# Altium footprint library Микродроссели.PcbLib: 12 footprints
Each footprint in its own frame and in the unit in brackets; x right, y up, seen from the top. Pads: shape width x height; smd on the part's side, far side on the other; paste and mask are expansions set on the pad; w line width, h text height; cw(c..) or ccw(c..) is an arc to the next point about the centre after c.
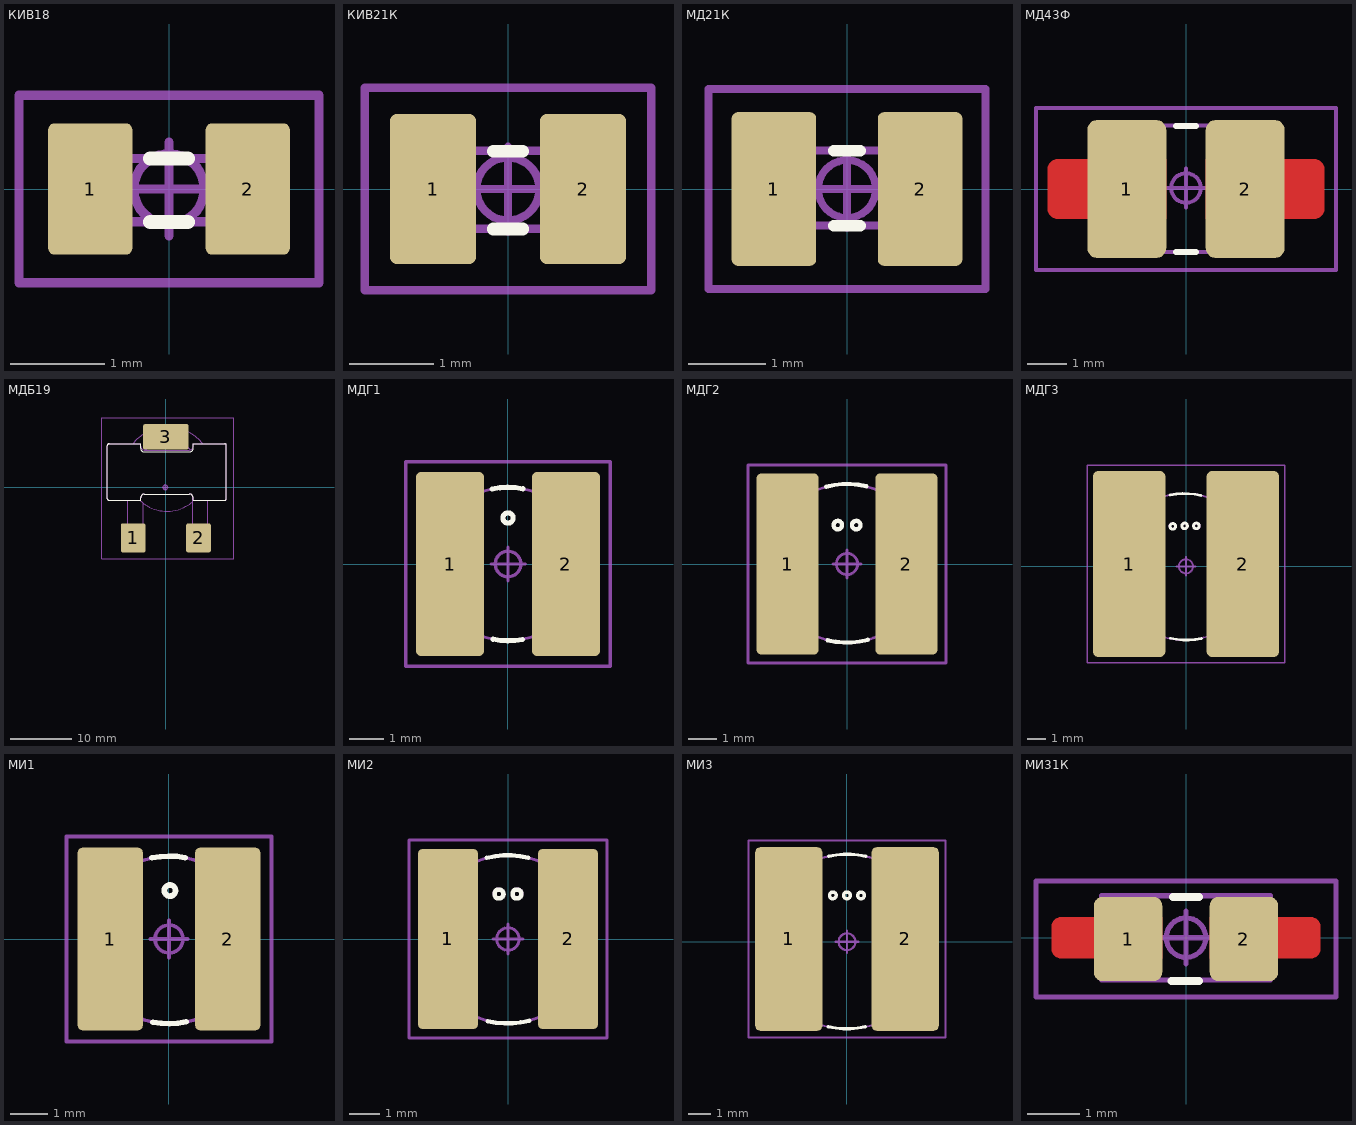
[diagram p0: the footprints below, top view; thin cyan lines are the x and y axes]

## КИВ18 [mm]
height 0.8
pads (2):
  rrect15% 0.9x1.4 smd: 1(-0.84,0) 2(0.84,0)
Top Overlay:
  lines w0.15: -0.2,-0.35 0.2,-0.35 ; -0.2,0.325 0.2,0.325
Top Assembly:
  lines w0.1: -0.45,-0.35 0.45,-0.35 ; -0.45,0.325 0.45,0.325 ; -0.846,-0.437 -0.846,0.423 -0.45,0.423 -0.45,-0.437 -0.846,-0.437 ; 0.45,-0.437 0.45,0.423 0.864,0.423 0.864,-0.437 0.45,-0.437
Top Courtyard (Mech15):
  circle w0.1: c0,0 r0.375
  lines w0.1: -0.5,0 0.5,0 ; 0,-0.5 0,0.5 ; -1.6,-1 -1.6,1 1.6,1 1.6,-1 -1.6,-1
3D body "КИВ18.STEP": height 0.73, standoff -0.03, extent -0.855,-0.43 0.855,0.43

## КИВ21К [mm]
height 1.52
pads (2):
  rrect15% 1.02x1.78 smd: 1(-0.89,0) 2(0.89,0)
Top Overlay:
  lines w0.15: -0.175,-0.475 0.175,-0.475 ; -0.175,0.45 0.175,0.45
Top Assembly:
  lines w0.1: -0.577,-0.473 0.583,-0.473 ; -0.557,0.456 0.58,0.456 ; -1.003,-0.686 -0.603,-0.686 -0.603,0.614 -1.003,0.614 -1.003,-0.686 ; 0.597,-0.631 0.997,-0.631 0.997,0.614 0.597,0.614 0.597,-0.631
Top Courtyard (Mech15):
  circle w0.1: c0,0 r0.375
  lines w0.1: -0.5,0 0.5,0 ; 0,-0.5 0,0.5 ; -1.7,-1.2 -1.7,1.2 1.7,1.2 1.7,-1.2 -1.7,-1.2
3D body "КИВ21К.STEP": height 1.3, standoff -0.01, extent -1,-0.65 1,0.65

## МД21К [mm]
height 1.53
pads (2):
  rrect15% 1.1x2 smd: 1(-0.95,0) 2(0.95,0)
Top Overlay:
  lines w0.15: -0.175,-0.475 0.175,-0.475 ; -0.175,0.5 0.175,0.5
Top Assembly:
  lines w0.1: -0.578,-0.643 -1.033,-0.643 -1.033,0.657 -0.578,0.657 ; -0.558,-0.643 -0.558,0.657 ; -0.55,-0.475 0.475,-0.475 ; -0.55,0.5 0.475,0.5 ; 0.492,-0.643 0.492,0.657 ; 0.512,-0.643 0.967,-0.643 0.967,0.657 0.512,0.657
Top Courtyard (Mech15):
  circle w0.1: c0,0 r0.375
  lines w0.1: -0.5,0 0.5,0 ; 0,-0.5 0,0.5 ; -1.8,-1.3 -1.8,1.3 1.8,1.3 1.8,-1.3 -1.8,-1.3
3D body "МД21К.STEP": height 1.25, standoff -0.06, extent -1,-0.65 1,0.65

## МД43Ф [mm]
height 2.8
pads (2):
  rrect25% 2x3.5 smd: 1(-1.5,0) 2(1.5,0)
Top Layer:
  region: 3.25,-0.75 3.3,-0.75 3.392,-0.712 3.462,-0.642 3.5,-0.55 3.5,-0.5 3.5,0.5 3.5,0.55 3.462,0.642 3.392,0.712 3.3,0.75 3.25,0.75 0.5,0.75 0.5,-0.75
  region: -3.25,0.75 -3.3,0.75 -3.392,0.712 -3.462,0.642 -3.5,0.55 -3.5,0.5 -3.5,-0.5 -3.5,-0.55 -3.462,-0.642 -3.392,-0.712 -3.3,-0.75 -3.25,-0.75 -0.5,-0.75 -0.5,0.75
Top Overlay:
  lines w0.15: -0.25,-1.6 0.25,-1.6 ; -0.25,1.6 0.25,1.6
Top Assembly:
  lines w0.1: -1.811,-1.592 -1.811,1.608 ; 1.789,-1.592 1.789,1.608 ; -2.261,-1.592 2.239,-1.592 2.239,1.608 -2.261,1.608 -2.261,-1.592
Top Courtyard (Mech15):
  circle w0.1: c0,0.025 r0.375
  lines w0.1: -0.5,0.025 0.5,0.025 ; 0,-0.475 0,0.525 ; -3.8,-2.05 3.8,-2.05 3.8,2.05 -3.8,2.05 -3.8,-2.05
3D body "МД43Ф.STEP": height 2.95, standoff -0.03, extent -2.271,-1.636 2.27,1.586

## МДБ19 [mm]
height 12
pads (3):
  rrect15% 4x4.7 smd: 1(-5.3,-8.2) 2(5.3,-8.2)
  rrect15% 7.4x4.1 smd: 3(0,8.2)
Top Overlay:
  lines w0.15: -3.525,5.75 3.875,5.75 ; -3.516,5.75 cw(c-3.516,6.31) -4.076,6.31 -4.076,7.088 -9.176,7.088 ccw(c-9.176,6.788) -9.476,6.788 -9.476,-1.812 ccw(c-9.176,-1.812) -9.176,-2.112 -4.076,-2.112 -4.076,-1.687 cw(c-3.476,-1.687) -3.476,-1.087 3.824,-1.087 cw(c3.824,-1.687) 4.424,-1.687 4.424,-2.112 9.524,-2.112 ccw(c9.524,-1.812) 9.824,-1.812 9.824,6.788 ccw(c9.524,6.788) 9.524,7.088 4.424,7.088 4.424,6.314 cw(c3.86,6.314) 3.86,5.75
Top Assembly:
  lines w0.1: -6.174,-9.513 -3.674,-9.513 ; -6.174,-9.484 -6.174,-2.125 ; -5.307,7.087 cw(c-1.381,4.306) -4.947,7.535 cw(c-0.252,3.085) -4.105,8.282 cw(c0.212,2.447) -3.652,8.591 cw(c0.704,1.652) -2.737,9.088 cw(c0.638,1.853) -2.303,9.274 cw(c-0.756,5.412) -1.902,9.412 cw(c-1.066,6.432) -1.085,9.527 ; -4.191,-2.113 ccw(c-0.065,2.107) -2.671,-3.188 ccw(c0.176,2.485) 3.582,-2.871 ccw(c1.357,0.836) 4.326,-2.307 ; -3.674,-9.484 -3.674,-2.575 ; -3.285,6.062 cw(c-0.618,4.11) -3.134,6.253 cw(c-2.065,5.313) -2.972,6.411 cw(c-1.684,4.862) -2.801,6.539 cw(c-1.485,4.531) -2.268,6.8 cw(c-1.439,4.369) -2.073,6.858 cw(c-1.288,3.788) -1.86,6.905 cw(c-0.849,0.972) -1.36,6.968 -1.208,6.98 -1.052,6.989 -0.89,6.997 -0.723,7.003 -0.553,7.008 -0.38,7.011 -0.205,7.014 -0.029,7.015 0.326,7.016 0.631,7.015 0.782,7.013 cw(c0.512,-14.866) 1.221,7.004 1.361,6.998 1.498,6.992 1.63,6.984 1.76,6.975 ; -3.268,6.062 -3.228,6.117 -3.188,6.171 cw(c-1.388,4.813) -3.148,6.223 cw(c-2.163,5.441) -3.065,6.318 cw(c-2.201,5.472) -3.022,6.36 cw(c-2.04,5.297) -2.978,6.399 cw(c-1.73,4.933) -2.933,6.435 cw(c-0.056,2.818) -2.843,6.505 ; -2.806,6.531 -2.667,6.617 ; -2.018,9.377 cw(c0.013,3.233) -1.876,9.422 cw(c-1.266,7.421) -1.736,9.459 cw(c-1.258,7.36) -1.596,9.486 cw(c-1.072,6.123) -1.304,9.519 cw(c-1.018,5.371) -1.145,9.527 cw(c-0.94,2.831) -0.974,9.53 -0.79,9.529 -0.388,9.523 ; -0.372,9.523 -0.514,9.525 -0.586,9.527 -0.657,9.528 -0.728,9.529 -0.8,9.529 -0.871,9.529 -0.942,9.529 -1.014,9.528 -1.085,9.527 ; 0.724,7.012 0.931,7.011 1.035,7.009 1.139,7.006 1.242,7.002 1.346,6.998 1.449,6.993 1.553,6.987 1.657,6.981 1.76,6.975 ; 3.931,6.084 ccw(c3.117,5.619) 3.756,6.305 ccw(c2.441,4.947) 3.357,6.6 ccw(c2.322,4.681) 3.152,6.697 ccw(c2.127,4.227) 2.945,6.773 ccw(c1.955,3.687) 2.731,6.834 ccw(c1.63,2.328) 2.274,6.921 ccw(c1,-2.708) 1.76,6.975 ; 4.326,-9.513 6.826,-9.513 6.826,-2.125 ; 4.326,-9.511 4.326,-1.363 ; 5.958,7.087 ccw(c1.471,3.839) 5.592,7.54 ccw(c0.937,3.131) 4.728,8.302 ccw(c0.087,1.925) 3.304,9.126 ccw(c0.543,3.043) 2.853,9.311 ccw(c1.481,5.605) 2.434,9.44 ccw(c1.631,6.112) 1.601,9.536 1.49,9.536 1.376,9.535 1.257,9.533 1.133,9.53 1.004,9.526 0.873,9.523 0.738,9.52 0.602,9.518 0.326,9.516 0.024,9.518 -0.126,9.519 -0.275,9.521 -0.421,9.524 -0.563,9.526 -0.702,9.528 -0.835,9.529 -0.962,9.529 -1.085,9.527 ; -9.474,-1.813 ccw(c-9.174,-1.813) -9.174,-2.113 -4.074,-2.113 -4.074,-1.688 cw(c-3.474,-1.688) -3.474,-1.088 3.826,-1.088 cw(c3.826,-1.688) 4.426,-1.688 4.426,-2.113 9.526,-2.113 ccw(c9.526,-1.813) 9.826,-1.813 9.826,6.787 ccw(c9.526,6.787) 9.526,7.087 4.426,7.087 4.426,6.662 cw(c3.826,6.662) 3.826,6.062 -3.474,6.062 cw(c-3.474,6.662) -4.074,6.662 -4.074,7.087 -9.174,7.087 ccw(c-9.174,6.787) -9.474,6.787 -9.474,-1.813 ; -2.675,9.116 -2.675,9.116
Top Courtyard (Mech15):
  circle w0.1: c-0.1,0 r0.375
  lines w0.1: -0.6,0 0.4,0 ; -0.1,-0.5 -0.1,0.5 ; -10.425,-11.6 -10.425,11.3 10.975,11.3 10.975,-11.6 -10.425,-11.6
3D body "МДБ19.STEP": height 11.81, standoff 0, extent -9.482,-9.524 9.818,9.524

## МДГ1 [mm]
height 4.8
pads (2):
  rrect15% 2x5.4 smd: 1(-1.7,0) 2(1.7,0)
Top Overlay:
  circle w0.15: c0,1.35 r0.15
  lines w0.15: -0.461,2.202 cw(c0,0) 0.441,2.206 ; -0.441,-2.206 ccw(c0,0) 0.427,-2.209
Top Assembly:
  circle w0.1: c0,0 r2.25
  circle w0.1: c0.008,1.348 r0.15
Top Courtyard (Mech15):
  circle w0.1: c0,0 r0.375
  lines w0.1: -0.5,0 0.5,0 ; 0,-0.5 0,0.5 ; -3,-3 3,-3 3,3 -3,3 -3,-3
3D body "МДГ1.STEP": height 4.27, standoff -0.04, extent -2.2,-2.25 2.2,2.25

## МДГ2 [mm]
height 6
pads (2):
  rrect15% 2.2x6.4 smd: 1(-2.1,0) 2(2.1,0)
Top Overlay:
  circle w0.15: c0.325,1.375 r0.15
  circle w0.15: c-0.325,1.375 r0.15
  lines w0.15: -0.733,2.731 cw(c0.006,0.03) 0.693,2.745 ; -0.693,-2.695 ccw(c-0.006,0.02) 0.733,-2.681
Top Assembly:
  circle w0.1: c0,0.025 r2.8
  circle w0.1: c0.316,1.383 r0.15
  circle w0.1: c-0.314,1.383 r0.15
Top Courtyard (Mech15):
  circle w0.1: c0,0 r0.375
  lines w0.1: -0.5,0 0.5,0 ; 0,-0.5 0,0.5 ; -3.5,-3.5 -3.5,3.5 3.5,3.5 3.5,-3.5 -3.5,-3.5
3D body "МДГ2.STEP": height 5.67, standoff -0.04, extent -2.75,-2.8 2.75,2.8

## МДГ3 [mm]
height 6.3
pads (2):
  rrect15% 3.85x9.9 smd: 1(-3.025,0.125) 2(3.025,0.125)
Top Overlay:
  circle w0.15: c0.55,2.15 r0.15
  circle w0.15: c-0.075,2.15 r0.15
  circle w0.15: c-0.7,2.125 r0.15
  lines w0.15: -0.843,3.791 cw(c-0.073,-0.032) 0.797,3.77 ; -0.822,-3.82 ccw(c0.048,-0.018) 0.818,-3.841
Top Assembly:
  circle w0.1: c-0.732,2.14 r0.15
  circle w0.1: c0.58,2.14 r0.15
  circle w0.1: c-0.076,2.14 r0.15
  circle w0.1: c-0.075,-0.025 r3.9
Top Courtyard (Mech15):
  circle w0.1: c0,0 r0.375
  lines w0.1: -0.5,0 0.5,0 ; 0,-0.5 0,0.5 ; -5.25,-5.125 5.25,-5.125 5.25,5.375 -5.25,5.375 -5.25,-5.125
3D body "МДГ3.STEP": height 5.87, standoff -0.04, extent -3.854,-3.9 3.854,3.9

## МИ1 [mm]
height 4.6
pads (2):
  rrect15% 1.75x4.9 smd: 1(-1.575,0) 2(1.575,0)
Top Overlay:
  circle w0.15: c0.025,1.3 r0.15
  lines w0.15: -0.455,2.175 cw(c0.011,-0.026) 0.43,2.185 ; -0.43,-2.235 ccw(c-0.011,-0.024) 0.455,-2.225
Top Assembly:
  circle w0.1: c0.011,1.304 r0.15
  circle w0.1: c0.011,-0.026 r2.25
Top Courtyard (Mech15):
  circle w0.1: c0,0 r0.375
  lines w0.1: -0.5,0 0.5,0 ; 0,-0.5 0,0.5 ; -2.75,-2.75 -2.75,2.75 2.75,2.75 2.75,-2.75 -2.75,-2.75
3D body "МИ1.STEP": height 4.37, standoff -0.04, extent -2.17,-2.25 2.17,2.25

## МИ2 [mm]
height 5.8
pads (2):
  rrect15% 2x6 smd: 1(-2,0) 2(2,0)
Top Overlay:
  circle w0.15: c0.3,1.5 r0.15
  circle w0.15: c-0.3,1.5 r0.15
  lines w0.15: -0.706,2.701 cw(c0.004,-0.008) 0.678,2.71 ; -0.678,-2.735 ccw(c-0.004,-0.017) 0.706,-2.726
Top Assembly:
  circle w0.1: c0.004,-0.008 r2.8
  circle w0.1: c-0.313,1.518 r0.15
  circle w0.1: c0.316,1.518 r0.15
Top Courtyard (Mech15):
  circle w0.1: c0,0 r0.375
  lines w0.1: -0.5,0 0.5,0 ; 0,-0.5 0,0.5 ; -3.3,-3.3 -3.3,3.3 3.3,3.3 3.3,-3.3 -3.3,-3.3
3D body "МИ2.STEP": height 5.67, standoff -0.04, extent -2.736,-2.8 2.736,2.8

## МИ3 [mm]
height 7.8
pads (2):
  rrect15% 3x8.2 smd: 1(-2.6,0.125) 2(2.6,0.125)
Top Overlay:
  circle w0.15: c0.626,2.072 r0.15
  circle w0.15: c-0.003,2.072 r0.15
  circle w0.15: c-0.633,2.072 r0.15
  lines w0.15: -0.834,-3.793 ccw(c0,0.017) 0.81,-3.798 ; -0.81,3.823 cw(c0,0.008) 0.834,3.818
Top Assembly:
  circle w0.1: c0,0.008 r3.9
Top Courtyard (Mech15):
  circle w0.1: c0,0 r0.375
  lines w0.1: -0.5,0 0.5,0 ; 0,-0.5 0,0.5 ; -4.4,-4.275 4.4,-4.275 4.4,4.525 -4.4,4.525 -4.4,-4.275
3D body "МИ3.STEP": height 5.87, standoff -0.04, extent -3.854,-3.9 3.854,3.9

## МИ31К [mm]
height 2
pads (2):
  rrect25% 1.3x1.6 smd: 1(-1.1,-0.025) 2(1.1,-0.025)
Top Layer:
  region: 2.375,0.392 2.41,0.391 2.475,0.364 2.524,0.313 2.55,0.248 2.55,0.213 2.55,-0.213 2.55,-0.248 2.523,-0.312 2.474,-0.362 2.41,-0.388 2.375,-0.388 0.45,-0.388 0.45,0.392
  region: -2.375,-0.392 -2.41,-0.391 -2.475,-0.364 -2.524,-0.313 -2.55,-0.248 -2.55,-0.213 -2.55,0.213 -2.55,0.248 -2.523,0.312 -2.474,0.362 -2.41,0.388 -2.375,0.388 -0.45,0.388 -0.45,-0.392
Top Overlay:
  lines w0.15: -0.275,-0.825 0.25,-0.825 ; -0.25,0.775 0.25,0.775
Top Assembly:
  lines w0.1: -1.211,-0.803 -1.211,0.797 ; -1.211,-0.803 -1.6,-0.803 -1.6,0.797 -1.211,0.797 ; -1.211,-0.803 1.189,-0.803 ; -1.211,0.797 1.189,0.797 ; 1.189,-0.803 1.6,-0.803 1.6,0.797 1.189,0.797 ; 1.189,-0.803 1.189,0.797
Top Courtyard (Mech15):
  circle w0.1: c0,0 r0.375
  lines w0.1: -0.5,0 0.5,0 ; 0,-0.5 0,0.5 ; -2.85,-1.125 -2.85,1.075 2.85,1.075 2.85,-1.125 -2.85,-1.125
3D body "МИ31К.STEP": height -0.4, standoff -2.4, extent -1.649,-0.844 1.649,0.843